# Altium schematic symbol library RES,Omit,1206.Schlib: 1 symbol
Pins are listed as number, name and electrical type; pins without a type are passive.

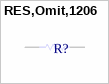
[diagram p0: symbol RES,Omit,1206]

## RES,Omit,1206
designator R?  (no BOM)
pins: 1, 2